# EAGLE library part 1977104-3 (library Switches)
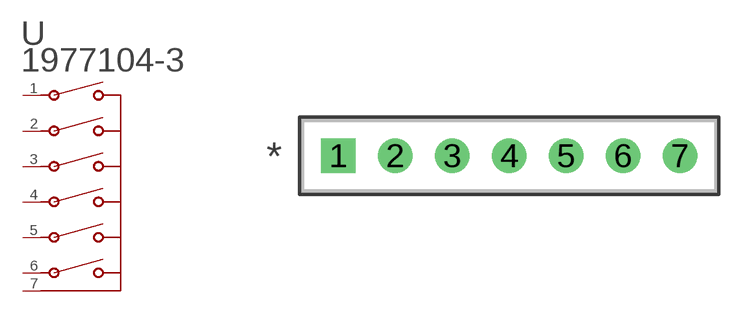
[diagram p12: symbol with the pads of SWSIP7-P100; footprint SWSIP7-P100]

Designator prefix U

## 1977104-3 (BUILT_BY: EMA_UL_Team; CATEGORY: DIP & SIP Switches; COPYRIGHT: Copyright (C) 2016 Accelerated Designs. All rights reserved; DESCRIPTION: STV06=6 POS SIP SWITCH; MANUFACTURER_PART_NUMBER: 1977104-3; PART_STATUS: active; SERIES: Alcoswitch DIP,Alcoswitch SIP STV; VENDOR: TE Connectivity)  [SWSIP7-P100]
1  1  pas
2  2  pas
3  3  pas
4  4  pas
5  5  pas
6  6  pas
7  7  pas

## Footprint SWSIP7-P100 (pad centres in mm)
drill 0.787 pad 1.524 square: 1 -15.24,0
drill 0.787 pad 1.524: 2 -12.7,0; 3 -10.16,0; 4 -7.62,0; 5 -5.08,0; 6 -2.54,0; 7 0,0